# Altium schematic symbol library Schlib1.SchLib: 9 symbols
Pins are listed as number, name and electrical type; pins without a type are passive.

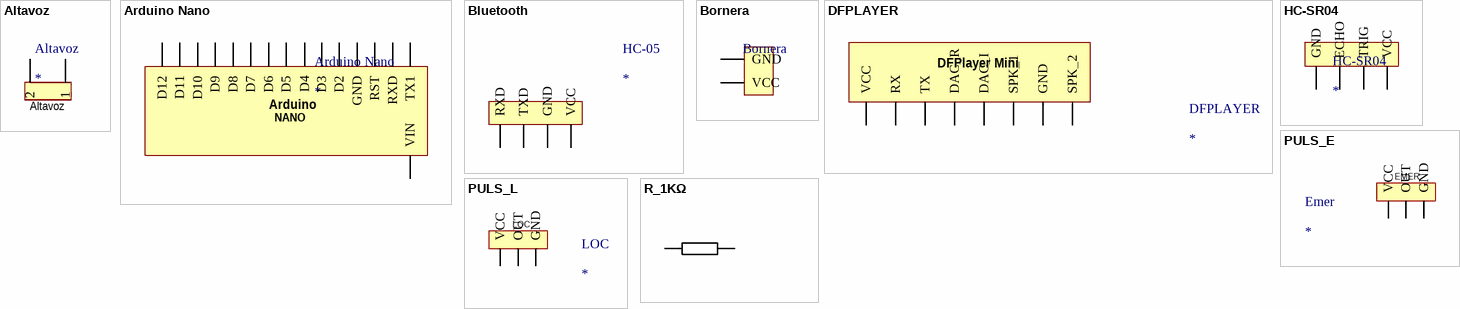
[diagram p0: symbols Altavoz to R_1KΩ]

## Altavoz
designator Altavoz
footprint ALTAVOZ
pins: ?1 1, ?2 2

## Arduino Nano
designator Arduino Nano
footprint Arduino NANO
footprint Arduino NANO
footprint Arduino NANO
footprint Arduino NANO
pins: ?1 VIN (power), ?2 D10, ?3 D9, ?4 D8, ?5 D7, ?6 D6, ?7 D5, ?8 D4, ?9 D3, ?10 D2, ?11 GND, ?12 RST, ?13 RXD, ?14 TX1, ?15 D12, ?16 D11
text: Arduino; NANO

## Bluetooth
designator HC-05
footprint Bluetooth
footprint Bluetooth
pins: ?1 VCC (power), ?2 GND, ?3 TXD, ?4 RXD

## Bornera
designator Bornera, comment CONN2  (value not drawn)
footprint CONN2
pins: 1 VCC (power), 2 GND

## DFPLAYER
designator DFPLAYER
footprint DFPLAYER
footprint DFPLAYER
pins: ?1 SPK_2, ?2 GND, ?3 SPK_1, ?4 DAC_I, ?5 DAC_R, ?6 TX, ?7 RX, ?8 VCC (power)
text: DFPlayer Mini

## HC-SR04
designator HC-SR04
footprint HC-SR04
pins: ?1 VCC, ?2 TRIG, ?3 ECHO, ?4 GND

## PULS_E
designator Emer
footprint EMER
footprint EMER
pins: GND, OUT (power), VCC
text: EMER

## PULS_L
designator LOC
footprint LOC
footprint LOC
pins: GND, OUT (power), VCC

## R_1KΩ
designator R_1KΩ, comment 1KR  (value not drawn)
footprint 330RES
pins: 1, 2